# EAGLE library part AD5339 (library parts)
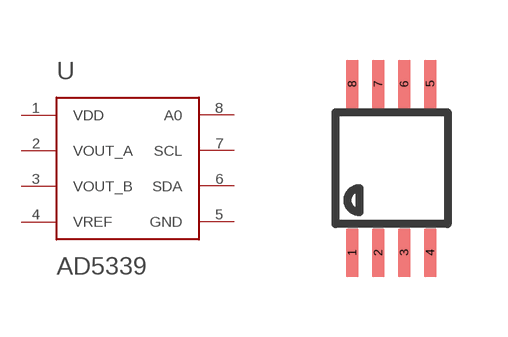
[diagram p1: symbol with the pads of MSOP08; footprint MSOP08]

Designator prefix -

## AD5339MSOP8  [MSOP08]
1  VDD
2  VOUT_A
3  VOUT_B
4  VREF
5  GND
6  SDA
7  SCL
8  A0

## Footprint MSOP08 (pad centres in mm)
Mini Small Outline Package Grid 0.5mm
smd 0.3 x 1.2: 1 -0.976,-2.113; 2 -0.326,-2.113; 3 0.324,-2.113; 4 0.974,-2.113; 5 0.974,2.112; 6 0.324,2.112; 7 -0.326,2.112; 8 -0.976,2.112